# Altium schematic symbol library 2100LL-560-H-RC.SchLib: 2 symbols
Pins are listed as number, name and electrical type; pins without a type are passive.

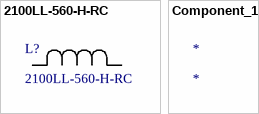
[diagram p0: symbols 2100LL-560-H-RC to Component_1]

## 2100LL-560-H-RC
designator L?
No Description Available; Mfr_Name: Bourns Electronics; Type: DEV; Copyright: Copyright (C) 2022 Ultra Librarian. All rights reserved.; Manufacturer_Part_Number: 2100LL-560-H-RC; Digi-Key_Part_Number_1: M1409-ND; RefDes: RefDes
footprint IND_2100LL_34_H
pins: 1, 2

## Component_1
designator *